# Altium schematic symbol library MTA_connectors.SchLib: 7 symbols
Pins are listed as number, name and electrical type; pins without a type are passive.

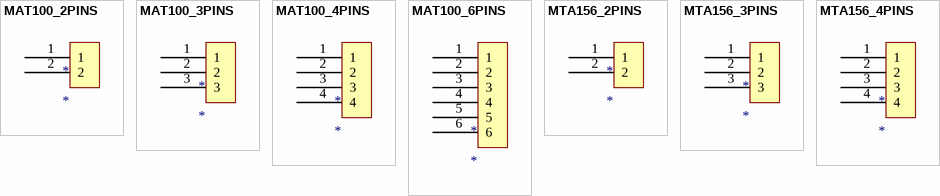
[diagram p0: symbols MAT100_2PINS to MTA156_4PINS]

## MAT100_2PINS
designator *
footprint MTA100_2PINS
pins: 1, 2

## MAT100_3PINS
designator *
footprint MTA100_3PINS
pins: 1, 2, 3

## MAT100_4PINS
designator *
footprint MTA100_4PINS
pins: 1, 2, 3, 4

## MAT100_6PINS
designator *
footprint MTA100_6PINS
pins: 1, 2, 3, 4, 5, 6

## MTA156_2PINS
designator *
footprint MAT156_2PINS
pins: 1, 2

## MTA156_3PINS
designator *
footprint MAT156_3PINS
pins: 1, 2, 3

## MTA156_4PINS
designator *
footprint MAT156_4PINS
pins: 1, 2, 3, 4